# EAGLE library part MCP73123 (library 24x16_RGB_ATXMega_Wifi_BBuck)
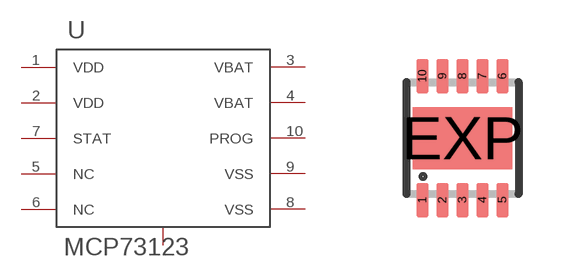
[diagram p0: symbol with the pads of DFN10_3X3; footprint DFN10_3X3]

Designator prefix -

## MCP73123  [DFN10_3X3]
1  VDD
2  VDD
3  VBAT
4  VBAT
5  NC
6  NC
7  STAT
8  VSS
9  VSS
10  PROG
EXP  GND  pas

## Footprint DFN10_3X3 (pad centres in mm)
smd 0.3 x 0.85: 1 -1,-1.55; 2 -0.5,-1.55; 3 0,-1.55; 4 0.5,-1.55; 5 1,-1.55; 6 1,1.55; 7 0.5,1.55; 8 0,1.55; 9 -0.5,1.55; 10 -1,1.55
smd 2.48 x 1.55: EXP 0,0